# Altium schematic symbol library MFR-25FBF52-1K1_MFR-25FBF52-1K.SCHLIB: 1 symbol
Pins are listed as number, name and electrical type; pins without a type are passive.

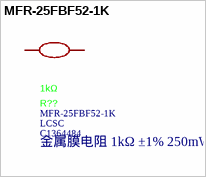
[diagram p0: symbol MFR-25FBF52-1K]

## MFR-25FBF52-1K
designator R??, comment 1kΩ  Supplier: LCSC  Supplier Part: C1364484  Manufacturer Part: MFR-25FBF52-1K  LCSC Part Name: 金属膜电阻 1kΩ ±1% 250mW
Manufacturer: YAGEO(国巨); Add into BOM: yes; Tolerance: ±1%; Power(Watts): 250mW; Temperature Coefficient: ±100ppm/℃; Symbol: MFR-25FBF52-1K; Device: MFR-25FBF52-1K; Supplier Footprint: 插件,D2.4xL6.3mm; JLCPCB Part Class: Extended Part; Datasheet: https://item.szlcsc.com/datasheet/MFR-25FBF52-1K/1454772.html; Convert to PCB: yes; Type: Metal Film Resistor; Value: 1kΩ; Operating Temperature: -55℃~+155℃
footprint RES-TH_BD2.4-L6.3-P10.30-D0.6
3D model RES-TH_BD2.4-L6.3-P10.30-D0.6
pins: 1, 2